# EAGLE library part TK-1315 (library GPS Receivers)
TK-1315 GPS receiver Producted by San Jose Technology,Inc.
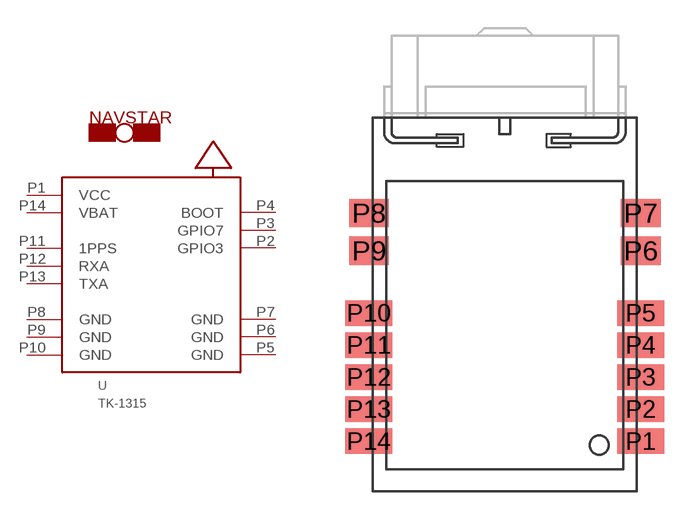
[diagram p2: symbol with the pads of TK-1315TA; footprint TK-1315TA]

Designator prefix U

## TK-1315-TA  [TK-1315TA]
P1  VCC
P2  GPIO3
P3  GPIO7
P4  BOOT  nc
P5  GND
P6  GND
P7  GND
P8  GND
P9  GND
P10  GND
P11  1PPS
P12  RXA
P13  TXA
P14  VBAT

## Footprint TK-1315TA (pad centres in mm)
smd 2.5 x 1.35: P1 7.2,-6.8; P2 7.2,-5.1; P3 7.2,-3.4; P4 7.2,-1.7; P5 7.2,0; P10 -7.2,0; P11 -7.2,-1.7; P12 -7.2,-3.4; P13 -7.2,-5.1; P14 -7.2,-6.8
smd 2.1 x 1.5: P6 7.2,3.3; P7 7.2,5.3; P8 -7.2,5.3; P9 -7.2,3.3